# EAGLE library part CY2291 (library PatternAgents-Cypress)
CY2291 3-PLL Clock Generator LBR Source: http://www.patternagents.com THIS SOFTWARE IS PROVIDED BY THE CONTRIBUTORS "AS IS" AND WITHOUT ANY EXPRESS OR IMPLIED WARRANTIES, INCLUDING, BUT NOT LIMITED TO, THE IMPLIED WARRANTIES OF MERCHANTABILITY AND FITNESS FOR A PARTICULAR PURPOSE ARE DISCLAIMED. IN NO EVENT SHALL THE COPYRIGHT OWNER OR CONTRIBUTORS BE LIABLE FOR ANY DIRECT, INDIRECT, INCIDENTAL, SPECIAL, EXEMPLARY, OR CONSEQUENTIAL DAMAGES (INCLUDING, BUT NOT LIMITED TO, PROCUREMENT OF SUBSTITUTE GOODS OR SERVICES; LOSS OF USE, DATA, OR PROFITS; OR BUSINESS INTERRUPTION) HOWEVER CAUSED AND ON ANY THEORY OF LIABILITY, WHETHER IN CONTRACT, STRICT LIABILITY, OR TORT (INCLUDING NEGLIGENCE OR OTHERWISE) ARISING IN ANY WAY OUT OF THE USE OF THIS SOFTWARE, EVEN IF ADVISED OF THE POSSIBILITY OF SUCH DAMAGE.
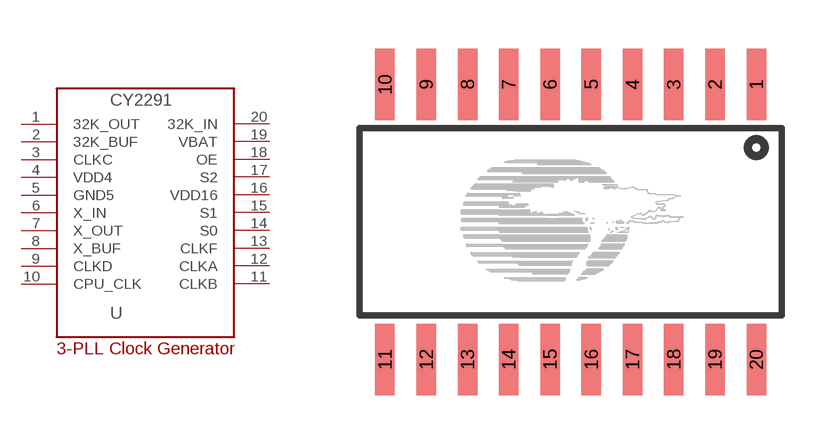
[diagram p17: symbol with the pads of SOIC20; footprint SOIC20]

Designator prefix -

## CY2291  [SOIC20]
1  32K_OUT  out
2  32K_BUF  in
3  CLKC  in
4  VDD4  pwr
5  GND5  pwr
6  X_IN
7  X_OUT  out
8  X_BUF  out
9  CLKD  out
10  CPU_CLK  out
11  CLKB  out
12  CLKA  out
13  CLKF  out
14  S0  out
15  S1  out
16  VDD16  pwr
17  S2  in
18  OE  in
19  VBAT  pwr
20  32K_IN  in

## Footprint SOIC20 (pad centres in mm)
SOIC20 Small Outline Integrated Circuit with 20 pins Data Source: http://www.cypress.com/?docID=1326 LBR Source: http://www.patternagents.com THIS SOFTWARE IS PROVIDED BY THE CONTRIBUTORS "AS IS" AND WITHOUT ANY EXPRESS OR IMPLIED WARRANTIES, INCLUDING, BUT NOT LIMITED TO, THE IMPLIED WARRANTIES OF MERCHANTABILITY AND FITNESS FOR A PARTICULAR PURPOSE ARE DISCLAIMED. IN NO EVENT SHALL THE COPYRIGHT OWNER OR CONTRIBUTORS BE LIABLE FOR ANY DIRECT, INDIRECT, INCIDENTAL, SPECIAL, EXEMPLARY, OR CONSEQUENTIAL DAMAGES (INCLUDING, BUT NOT LIMITED TO, PROCUREMENT OF SUBSTITUTE GOODS OR SERVICES; LOSS OF USE, DATA, OR PROFITS; OR BUSINESS INTERRUPTION) HOWEVER CAUSED AND ON ANY THEORY OF LIABILITY, WHETHER IN CONTRACT, STRICT LIABILITY, OR TORT (INCLUDING NEGLIGENCE OR OTHERWISE) ARISING IN ANY WAY OUT OF THE USE OF THIS SOFTWARE, EVEN IF ADVISED OF THE POSSIBILITY OF SUCH DAMAGE.
smd 0.6 x 2.2: 1 5.715,4.235; 2 4.445,4.235; 3 3.175,4.235; 4 1.905,4.235; 5 0.635,4.235; 6 -0.635,4.235; 7 -1.905,4.235; 8 -3.175,4.235; 9 -4.445,4.235; 10 -5.715,4.235; 11 -5.715,-4.235; 12 -4.445,-4.235; 13 -3.175,-4.235; 14 -1.905,-4.235; 15 -0.635,-4.235; 16 0.635,-4.235; 17 1.905,-4.235; 18 3.175,-4.235; 19 4.445,-4.235; 20 5.715,-4.235